# EAGLE library part APW8805 (library FaBo-Supply)
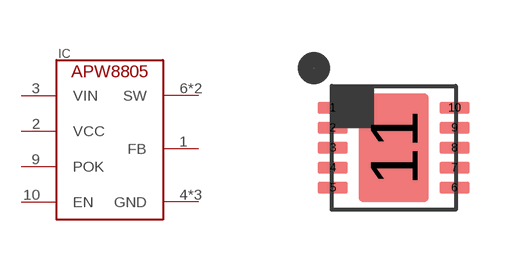
[diagram p10: symbol with the pads of TDFN3X3-10; footprint TDFN3X3-10]

Designator prefix IC

## APW8805  [TDFN3X3-10]
1  FB
2  VCC
3  VIN
4  GND
5  GND
6  SW
7  SW
9  POK
10  EN
11  GND

## Footprint TDFN3X3-10 (pad centres in mm)
smd 0.75 x 0.3: 1 -1.525,1; 2 -1.525,0.5; 3 -1.525,0; 4 -1.525,-0.5; 5 -1.525,-1; 6 1.525,-1; 7 1.525,-0.5; 8 1.525,0; 9 1.525,0.5; 10 1.525,1
smd 1.75 x 2.7: 11 0,0